# EAGLE library part STP24DP05 (library stp24DP05)
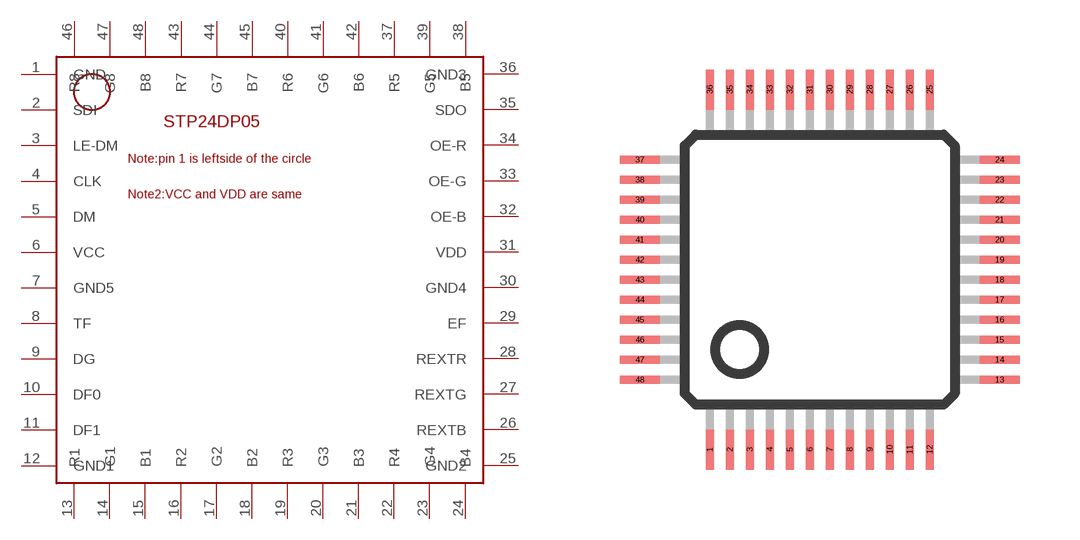
[diagram p0: symbol with the pads of TQFP48; footprint TQFP48]

Designator prefix -

## STP24DP05  [TQFP48]
1  GND
2  SDI
3  LE-DM
4  CLK
5  DM
6  VCC
7  GND5
8  TF
9  DG
10  DF0
11  DF1
12  GND1
13  R1
14  G1
15  B1
16  R2
17  G2
18  B2
19  R3
20  G3
21  B3
22  R4
23  G4
24  B4
25  GND2
26  REXTB
27  REXTG
28  REXTR
29  EF
30  GND4
31  VDD
32  OE-B
33  OE-G
34  OE-R
35  SDO
36  GND3
37  R5
38  B5
39  G5
40  R6
41  G6
42  B6
43  R7
44  G7
45  B7
46  R8
47  G8
48  B8

## Footprint TQFP48 (pad centres in mm)
smd 0.2 x 1: 1 -2.75,-4.5; 2 -2.25,-4.5; 3 -1.75,-4.5; 4 -1.25,-4.5; 5 -0.75,-4.5; 6 -0.25,-4.5; 7 0.25,-4.5; 8 0.75,-4.5; 9 1.25,-4.5; 10 1.75,-4.5; 11 2.25,-4.5; 12 2.75,-4.5; 25 2.75,4.5; 26 2.25,4.5; 27 1.75,4.5; 28 1.25,4.5; 29 0.75,4.5; 30 0.25,4.5; 31 -0.25,4.5; 32 -0.75,4.5; 33 -1.25,4.5; 34 -1.75,4.5; 35 -2.25,4.5; 36 -2.75,4.5
smd 1 x 0.2: 13 4.5,-2.75; 14 4.5,-2.25; 15 4.5,-1.75; 16 4.5,-1.25; 17 4.5,-0.75; 18 4.5,-0.25; 19 4.5,0.25; 20 4.5,0.75; 21 4.5,1.25; 22 4.5,1.75; 23 4.5,2.25; 24 4.5,2.75; 37 -4.5,2.75; 38 -4.5,2.25; 39 -4.5,1.75; 40 -4.5,1.25; 41 -4.5,0.75; 42 -4.5,0.25; 43 -4.5,-0.25; 44 -4.5,-0.75; 45 -4.5,-1.25; 46 -4.5,-1.75; 47 -4.5,-2.25; 48 -4.5,-2.75